# Altium footprint library RESISTOR_TH_POWER(18X7.5).PcbLib: 1 footprints
Each footprint in its own frame and in the unit in brackets; x right, y up, seen from the top. Pads: shape width x height; smd on the part's side, far side on the other; paste and mask are expansions set on the pad; w line width, h text height; cw(c..) or ccw(c..) is an arc to the next point about the centre after c.
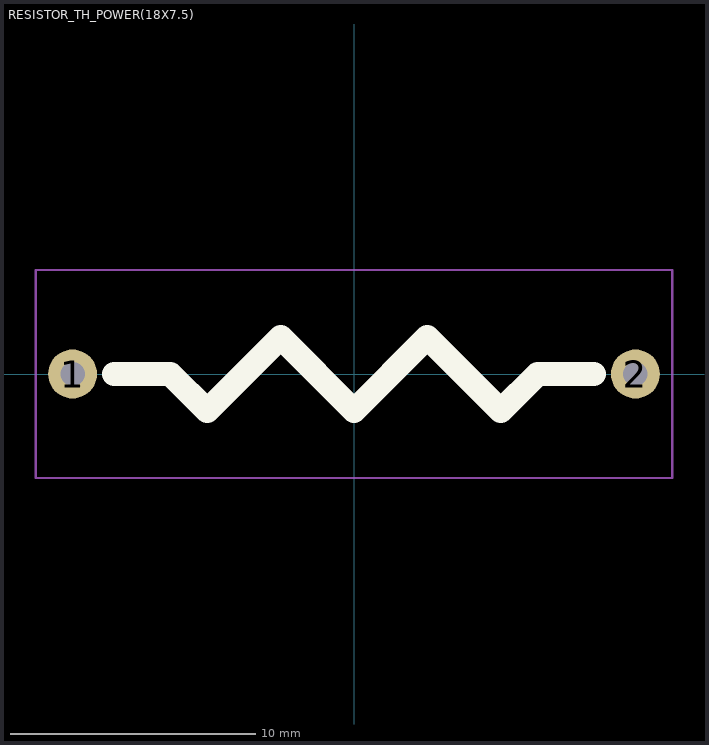
[diagram p0: the footprint, top view; thin cyan lines are the x and y axes]

## RESISTOR_TH_POWER(18X7.5) [mm]
pads (2):
  round 2 hole 1: 1(-11.5,0) 2(11.5,0)
Top Overlay:
  lines w1: -9.8,0 -7.5,0 -6,-1.5 -3,1.5 0,-1.5 3,1.5 6,-1.5 7.5,0 9.8,0
Top Courtyard:
  lines w0.1: -13,-4.25 -13,4.25 13,4.25 13,-4.25 -9,-4.25 -13,-4.25
3D body: height 7.75, standoff 0.25, extent -9,-3.75 9,3.75